# EAGLE library part CREE_XL_MCE (library CreeXL-MC-E)
Cree® LED
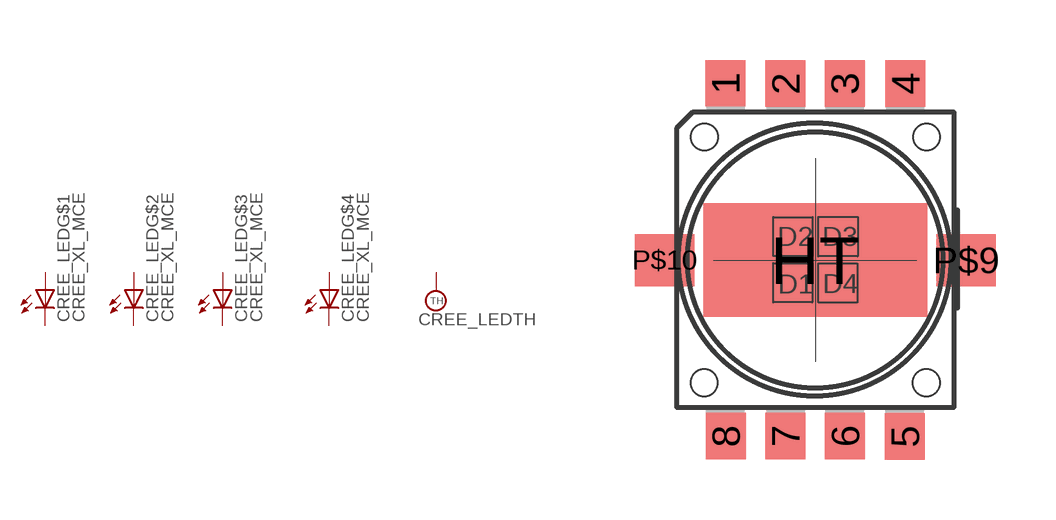
[diagram p0: symbol with the pads of CREE_XL_MCE; footprint CREE_XL_MCE]

Designator prefix CREE_LED; gates G$1=LED TH=THERMAL G$2=LED G$3=LED G$4=LED

## CREE_XL_MCE  [CREE_XL_MCE]
1  G$1:A  pas
2  G$2:A  pas
3  G$3:A  pas
4  G$4:A  pas
5  G$4:C  pas
6  G$3:C  pas
7  G$2:C  pas
8  G$1:C  pas
HT  TH:TH  pas

## Footprint CREE_XL_MCE (pad centres in mm)
Cree® CLN6A-WKW/MKW Source: Data sheet <http://www.cree.com/products/pdf/LEDlamps/CLN6A%28979%29.pdf>
smd 1 x 1.16: 1 -2.24,4.42; 2 -0.739,4.408; 3 0.739,4.408; 4 2.256,4.408; 5 2.246,-4.408; 6 0.749,-4.399; 7 -0.739,-4.399; 8 -2.237,-4.399
smd 5.6 x 2.84: HT 0,0
smd 1.492 x 1.3: P$9 3.778,0; P$10 -3.767,0